# EAGLE library part CD4051B-53B (library bbb-cc2520)
IC MUX/DEMUX 8x1 16TSSOP
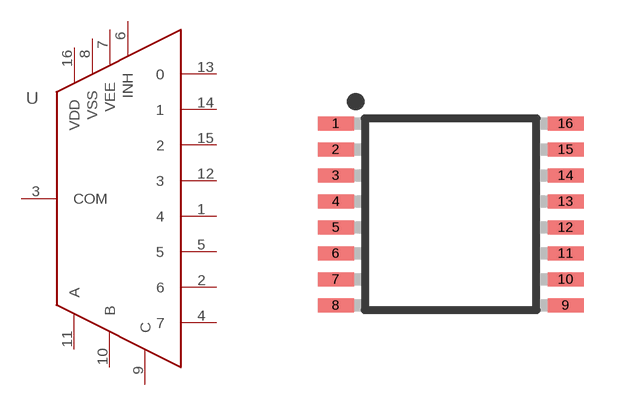
[diagram p4: symbol with the pads of TSSOP16; footprint TSSOP16]

Designator prefix -

## CD4051B-53B (DIGIKEY: 296-11993-1-ND)  [TSSOP16]
1  4
2  6
3  COM
4  7
5  5
6  INH
7  VEE
8  VSS
9  C
10  B
11  A
12  3
13  0
14  1
15  2
16  VDD

## Footprint TSSOP16 (pad centres in mm)
16-Lead Thin Shrink Small Outline Package [TSSOP] (RU-16) Source: 8x ADG1408_1409.pdf
smd 0.9 x 0.35: 1 -2.875,2.275; 2 -2.875,1.625; 3 -2.875,0.975; 4 -2.875,0.325; 5 -2.875,-0.325; 6 -2.875,-0.975; 7 -2.875,-1.625; 8 -2.875,-2.275; 9 2.875,-2.275; 10 2.875,-1.625; 11 2.875,-0.975; 12 2.875,-0.325; 13 2.875,0.325; 14 2.875,0.975; 15 2.875,1.625; 16 2.875,2.275